# Altium schematic symbol library SEMATIK_LIB.SchLib: 632 symbols (part 10 of 21)
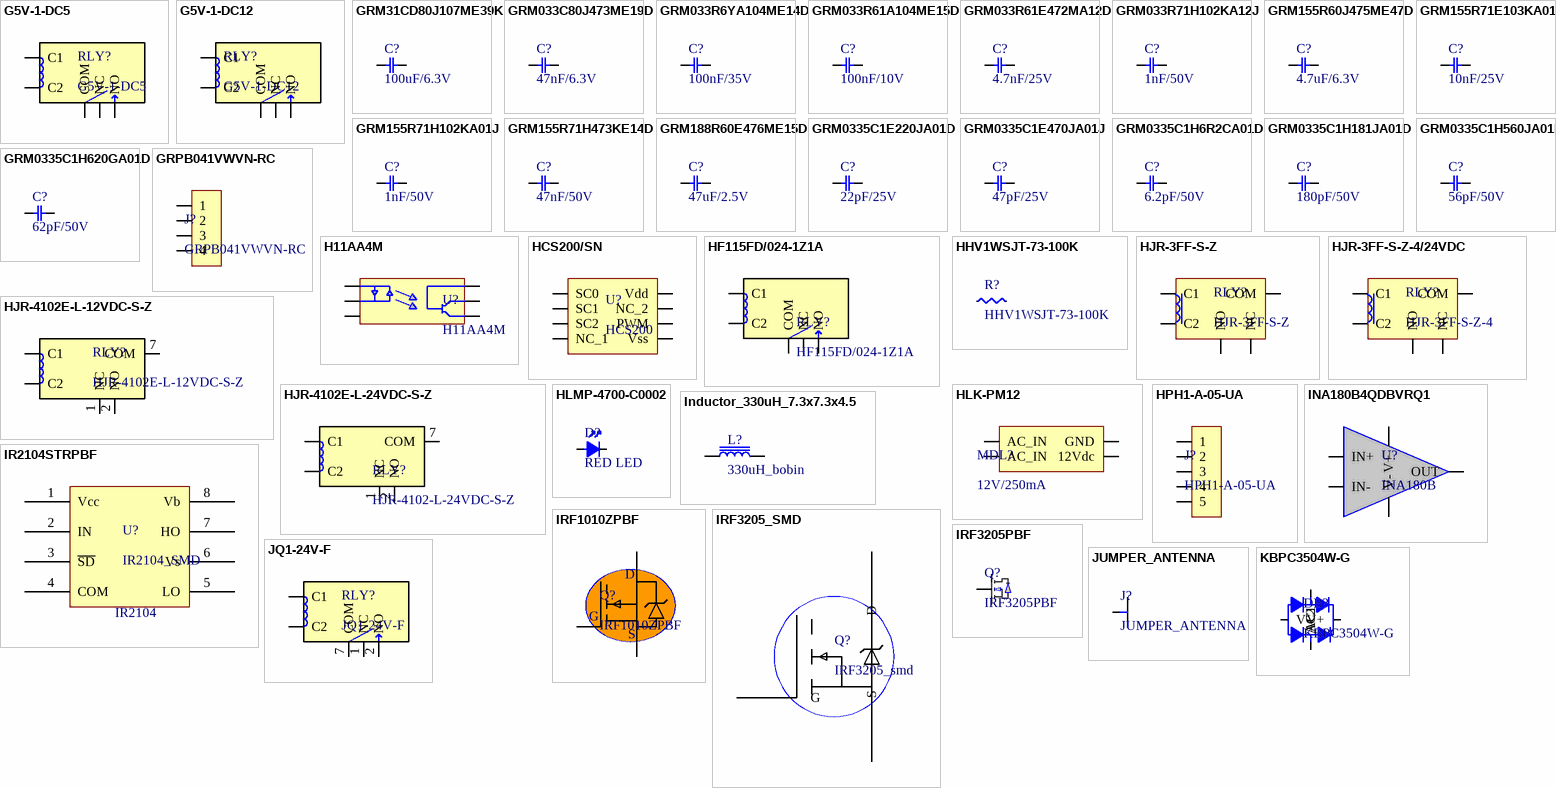
[diagram p25: symbols G5V-1-DC5 to KBPC3504W-G]

## GRM155R71H102KA01J
designator C?, comment 1nF/50V
CAP CER nF 1 50V X7R 0402; Manufacturer: Murata; Manufacturer Part Number: GRM155R71H102KA01J; Capacitance: 1nF; Tolerance: 10%; Supplier 1: Digi-Key; Stock 1: 1789584; Pricing 1: 1 = 0,10000, 10 = 0,03200, 100 = 0,01430, 500 = 0,01020, 1000 = 0,00802, 2500 = 0,00729, 5000 = 0,00670 (USD); RoHS: Yes; Mount: Surface Mount; Case/Package: 0402; Case Code (Imperial): 0402; Case Code (Metric): 1005; Min Operating Temperature: -55°C; Max Operating Temperature: 125°C; Voltage Rating: 50V; Voltage Rating (DC): 50V; Packaging: Tape and Reel; Package Quantity: 1; Dielectric: X7R; Termination: SMD/SMT; Voltage: 50V; Length: 1mm; Height: 0.5mm; Width: 0.5mm; Thickness: 0.022inch; Depth: 0.5mm; Radiation Hardening: No; Lead Free: Lead Free; ComponentLink1URL: https://datasheet.ciiva.com/5419/product-5419249.pdf?src-supplier=Mouser; ComponentLink1Description: https://datasheet.ciiva.com/5419/product-5419249.pdf?src-supplier=Mouser; ComponentLink2URL: https://datasheet.ciiva.com/6263/partnumbering-e-01-6263560.pdf?src-supplier=Digi-Key; ComponentLink2Description: https://datasheet.ciiva.com/6263/partnumbering-e-01-6263560.pdf?src-supplier=Digi-Key; ComponentLink3URL: https://datasheet.ciiva.com/6263/partnumbering-e-01-6263561.pdf?src-supplier=Digi-Key; ComponentLink3Description: https://datasheet.ciiva.com/6263/partnumbering-e-01-6263561.pdf?src-supplier=Digi-Key; ComponentLink4URL: https://datasheet.ciiva.com/6263/partnumbering-e-01-6263562.pdf?src-supplier=Digi-Key; ComponentLink4Description: https://datasheet.ciiva.com/6263/partnumbering-e-01-6263562.pdf?src-supplier=Digi-Key; Supplier Part Number 1: 490-6350-1-ND
footprint cap_0402
footprint cap_0402_NOSILK
pins: 1, 2

## GRM155R71H473KE14D
designator C?, comment 47nF/50V
CAP CER nF 47 50V X7R 0402; Manufacturer: Murata; Manufacturer Part Number: GRM155R71H473KE14D; Tolerance: 10%; Capacitance: 47nF; Supplier 1: Digi-Key; Stock 1: 120112; Pricing 1: 1 = 0,10000, 10 = 0,03700, 100 = 0,01640, 500 = 0,01174, 1000 = 0,00923, 2500 = 0,00839, 5000 = 0,00772 (USD); RoHS: Yes; Mount: Surface Mount; Case/Package: 0402; Weight: 0.000212oz; Case Code (Imperial): 0402; Case Code (Metric): 1005; Min Operating Temperature: -55°C; Max Operating Temperature: 125°C; Dielectric: X7R; Voltage Rating (DC): 50V; Packaging: Tape and Reel; Voltage Rating: 50V; Termination: SMD/SMT; Composition: Ceramic; Package Quantity: 10000; Length: 0.039inch; Height: 0.5mm; Width: 0.02inch; Thickness: 0.022inch; ComponentLink1URL: http://www.mouser.com/ds/2/281/c02e-2905.pdf?src-supplier=Mouser; ComponentLink1Description: http://www.mouser.com/ds/2/281/c02e-2905.pdf?src-supplier=Mouser; ComponentLink2URL: http://search.murata.co.jp/Ceramy/image/img/A01X/G101/ENG/GRM155R71H473KE14-01.pdf?src-supplier=Digi-Key; ComponentLink2Description: http://search.murata.co.jp/Ceramy/image/img/A01X/G101/ENG/GRM155R71H473KE14-01.pdf?src-supplier=Digi-Key; Supplier Part Number 1: 490-10702-6-ND
footprint cap_0402
footprint cap_0402_NOSILK
pins: 1, 2

## GRM188R60E476ME15D
designator C?, comment 47uF/2.5V
CAP CER uF 47 2.5V X5R 0603; Manufacturer: Murata; Manufacturer Part Number: GRM188R60E476ME15D; Tolerance: 20%; Capacitance: 47uF; Supplier 1: Digi-Key; Stock 1: 16000; Pricing 1: 4000 = 0,11145, 8000 = 0,10402, 12000 = 0,10216 (USD); RoHS: Yes; Mount: Surface Mount; Case/Package: 0603; Case Code (Imperial): 0603; Case Code (Metric): 1608; Min Operating Temperature: -55°C; Max Operating Temperature: 85°C; Packaging: Tape and Reel; Voltage Rating: 2.5V; Voltage Rating (DC): 2.5V; Dielectric: X5R; Length: 0.063inch; Width: 0.031inch; Thickness: 0.039inch; ComponentLink1URL: http://search.murata.co.jp/Ceramy/image/img/A01X/G101/ENG/GRM188R60E476ME15-01.pdf?src-supplier=Digi-Key; ComponentLink1Description: http://search.murata.co.jp/Ceramy/image/img/A01X/G101/ENG/GRM188R60E476ME15-01.pdf?src-supplier=Digi-Key; ComponentLink2URL: http://search.murata.co.jp/Ceramy/image/img/A01X/partnumbering_e_01.pdf?src-supplier=Digi-Key; ComponentLink2Description: http://search.murata.co.jp/Ceramy/image/img/A01X/partnumbering_e_01.pdf?src-supplier=Digi-Key; Supplier Part Number 1: 490-13245-2-ND
footprint cap_0603
pins: 1, 2

## GRM0335C1E220JA01D
designator C?, comment 22pF/25V
CAP CER pF 22 25V C0G/NP0 0201; Manufacturer: Murata; Manufacturer Part Number: GRM0335C1E220JA01D; Capacitance: 22pF; Tolerance: 5%; Dielectric: C0G; Supplier 1: Digi-Key; Stock 1: 625122; Pricing 1: 1 = 0,10000, 10 = 0,01600, 50 = 0,00880, 100 = 0,00710, 500 = 0,00508, 1000 = 0,00399, 2500 = 0,00363, 5000 = 0,00334 (USD); RoHS: Yes; Mount: Surface Mount; Case/Package: 0201; Case Code (Metric): 0603; Case Code (Imperial): 0201; Min Operating Temperature: -55°C; Max Operating Temperature: 125°C; Voltage Rating: 25V; Voltage Rating (DC): 25V; Packaging: Tape and Reel; Package Quantity: 1; Termination: SMD/SMT; Voltage: 25V; Length: 0.6mm; Height: 0.3mm; Width: 0.3mm; Thickness: 0.013inch; Depth: 0.3mm; Radiation Hardening: No; REACH SVHC: No SVHC; Lead Free: Lead Free; ComponentLink1URL: https://datasheet.ciiva.com/18697/partnumbering-e-01-18697783.pdf?src-supplier=Digi-Key; ComponentLink1Description: https://datasheet.ciiva.com/18697/partnumbering-e-01-18697783.pdf?src-supplier=Digi-Key; ComponentLink2URL: https://datasheet.ciiva.com/18697/partnumbering-e-01-18697784.pdf?src-supplier=Digi-Key; ComponentLink2Description: https://datasheet.ciiva.com/18697/partnumbering-e-01-18697784.pdf?src-supplier=Digi-Key; ComponentLink3URL: https://datasheet.ciiva.com/18697/partnumbering-e-01-18697785.pdf?src-supplier=Digi-Key; ComponentLink3Description: https://datasheet.ciiva.com/18697/partnumbering-e-01-18697785.pdf?src-supplier=Digi-Key; Supplier Part Number 1: 490-1253-1-ND
footprint cap_0201
pins: 1, 2

## GRM0335C1E470JA01J
designator C?, comment 47pF/25V
CAP CER pF 47 25V 5% NP0 0201; Manufacturer: Murata; Manufacturer Part Number: GRM0335C1E470JA01J; Capacitance: 47pF; Supplier 1: Digi-Key; Stock 1: 76340; Pricing 1: 1 = 0,10000, 10 = 0,01700, 100 = 0,00740, 500 = 0,00532, 1000 = 0,00417, 2500 = 0,00380, 5000 = 0,00349 (USD); RoHS: Yes; Mount: Surface Mount; Case/Package: 0201; Case Code (Imperial): 0201; Case Code (Metric): 0603; Min Operating Temperature: -55°C; Max Operating Temperature: 125°C; Tolerance: 5%; Packaging: Tape and Reel; Voltage Rating: 25V; Package Quantity: 50000; Termination: SMD/SMT; Voltage Rating (DC): 25V; Length: 0.024inch; Width: 0.012inch; Thickness: 0.013inch; Lead Free: Lead Free; ComponentLink1URL: https://datasheet.ciiva.com/29535/grm0335c1e470ja01-01-29535197.pdf?src-supplier=Digi-Key; ComponentLink1Description: https://datasheet.ciiva.com/29535/grm0335c1e470ja01-01-29535197.pdf?src-supplier=Digi-Key; Supplier Part Number 1: 490-14548-1-ND
footprint cap_0201
pins: 1, 2

## GRM0335C1H6R2CA01D
designator C?, comment 6.2pF/50V
CAP CER pF 6.2 50V NP0 0201; Manufacturer: Murata; Manufacturer Part Number: GRM0335C1H6R2CA01D; Capacitance: 6.2pF; Dielectric: C0G; Supplier 1: Digi-Key; Stock 1: 22925; Pricing 1: 1 = 0,10000, 10 = 0,01600, 50 = 0,00880, 100 = 0,00710, 500 = 0,00508, 1000 = 0,00399, 2500 = 0,00363, 5000 = 0,00334 (USD); RoHS: Yes; Mount: Surface Mount; Case/Package: 0201; Case Code (Imperial): 0201; Case Code (Metric): 0603; Min Operating Temperature: -55°C; Max Operating Temperature: 125°C; Voltage Rating: 50V; Voltage Rating (DC): 50V; Packaging: Tape and Reel; Package Quantity: 15000; Termination: SMD/SMT; Length: 0.024inch; Height: 0.3mm; Width: 0.3mm; Thickness: 0.013inch; ComponentLink1URL: https://datasheet.ciiva.com/29535/partnumbering-e-01-29535223.pdf?src-supplier=Digi-Key; ComponentLink1Description: https://datasheet.ciiva.com/29535/partnumbering-e-01-29535223.pdf?src-supplier=Digi-Key; Supplier Part Number 1: 490-16730-1-ND
footprint cap_0201
pins: 1, 2

## GRM0335C1H181JA01D
designator C?, comment 180pF/50V
CAP CER pF 180 50V C0G/NP0 0201; Manufacturer: Murata; Manufacturer Part Number: GRM0335C1H181JA01D; Capacitance: 180pF; Dielectric: C0G; Tolerance: 5%; Supplier 1: Digi-Key; Stock 1: 161344; Pricing 1: 1 = 0,10000, 10 = 0,02500, 50 = 0,01380, 100 = 0,01130, 500 = 0,00804, 1000 = 0,00632, 2500 = 0,00575, 5000 = 0,00529 (USD); RoHS: Yes; Mount: Surface Mount; Case/Package: 0201; Weight: 1.2E-05oz; Case Code (Imperial): 0201; Case Code (Metric): 0603; Min Operating Temperature: -55°C; Max Operating Temperature: 125°C; Packaging: Tape and Reel; Voltage Rating: 50V; Termination: SMD/SMT; Composition: Ceramic; Voltage Rating (DC): 50V; Package Quantity: 15000; Length: 0.024inch; Height: 0.3mm; Width: 0.012inch; Thickness: 0.013inch; ComponentLink1URL: http://www.mouser.com/ds/2/281/c02e-2905.pdf?src-supplier=Mouser; ComponentLink1Description: http://www.mouser.com/ds/2/281/c02e-2905.pdf?src-supplier=Mouser; ComponentLink2URL: https://search.murata.co.jp/Ceramy/image/img/A01X/G101/ENG/GRM0335C1H181JA01-01.pdf?src-supplier=Digi-Key; ComponentLink2Description: https://search.murata.co.jp/Ceramy/image/img/A01X/G101/ENG/GRM0335C1H181JA01-01.pdf?src-supplier=Digi-Key; ComponentLink3URL: http://search.murata.co.jp/Ceramy/image/img/A01X/G101/ENG/GRM0335C1H181JA01-01.pdf?src-supplier=Digi-Key; ComponentLink3Description: http://search.murata.co.jp/Ceramy/image/img/A01X/G101/ENG/GRM0335C1H181JA01-01.pdf?src-supplier=Digi-Key; Supplier Part Number 1: 490-16722-1-ND
footprint cap_0201
pins: 1, 2

## GRM0335C1H560JA01D
designator C?, comment 56pF/50V
CAP CER pF 56 50V C0G/NP0 0201; Manufacturer: Murata; Manufacturer Part Number: GRM0335C1H560JA01D; Capacitance: 56pF; Tolerance: 5%; Dielectric: C0G; Supplier 1: Digi-Key; Stock 1: 228495; Pricing 1: 1 = 0,10000, 10 = 0,01600, 50 = 0,00880, 100 = 0,00710, 500 = 0,00508, 1000 = 0,00399, 2500 = 0,00363, 5000 = 0,00334 (USD); RoHS: Yes; Mount: Surface Mount; Case/Package: 0201; Case Code (Metric): 0603; Case Code (Imperial): 0201; Min Operating Temperature: -55°C; Max Operating Temperature: 125°C; Package Quantity: 15000; Voltage Rating: 50V; Packaging: Tape and Reel; Voltage Rating (DC): 50V; Termination: SMD/SMT; Voltage: 50V; Length: 0.6mm; Height: 0.3mm; Width: 0.012inch; Thickness: 0.013inch; Depth: 0.3mm; Lead Free: Lead Free; ComponentLink1URL: https://datasheet.ciiva.com/6263/partnumbering-e-01-6263607.pdf?src-supplier=Digi-Key; ComponentLink1Description: https://datasheet.ciiva.com/6263/partnumbering-e-01-6263607.pdf?src-supplier=Digi-Key; ComponentLink2URL: https://datasheet.ciiva.com/6263/partnumbering-e-01-6263599.pdf?src-supplier=Digi-Key; ComponentLink2Description: https://datasheet.ciiva.com/6263/partnumbering-e-01-6263599.pdf?src-supplier=Digi-Key; Supplier Part Number 1: 490-6131-1-ND
footprint cap_0201
pins: 1, 2

## GRM0335C1H620GA01D
designator C?, comment 62pF/50V
CAP CER pF 62 50V C0G/NP0 0201; Manufacturer: Murata; Manufacturer Part Number: GRM0335C1H620GA01D; Capacitance: 62pF; Tolerance: 2%; Dielectric: C0G; Supplier 1: Digi-Key; Stock 1: 24212; Pricing 1: 1 = 0,10000, 10 = 0,02100, 50 = 0,01160, 100 = 0,00950, 500 = 0,00678, 1000 = 0,00532, 2500 = 0,00484, 5000 = 0,00445 (USD); RoHS: Yes; Mount: Surface Mount; Case/Package: 0201; Case Code (Metric): 0603; Case Code (Imperial): 0201; Min Operating Temperature: -55°C; Max Operating Temperature: 125°C; Package Quantity: 15000; Packaging: Tape and Reel; Voltage Rating: 50V; Voltage Rating (DC): 50V; Termination: SMD/SMT; Length: 0.024inch; Height: 0.3mm; Width: 0.012inch; Thickness: 0.013inch; ComponentLink1URL: https://datasheet.ciiva.com/29538/grm0335c1h620ga01-01-29538493.pdf?src-supplier=Digi-Key; ComponentLink1Description: https://datasheet.ciiva.com/29538/grm0335c1h620ga01-01-29538493.pdf?src-supplier=Digi-Key; Supplier Part Number 1: 490-11337-6-ND
footprint cap_0201
pins: 1, 2

## GRPB041VWVN-RC
designator J?
CONN HEADER 4POS 1.27MM VERT; Manufacturer: Sullins; Number of Positions: 4; Connector Type: Male Pin; Pitch: 0.05inch; Supplier 1: Digi-Key; Manufacturer Part Number: GRPB041VWVN-RC; Stock 1: 14086; Pricing 1: 1 = 0,37000, 10 = 0,35000, 100 = 0,24480, 500 = 0,20980, 1000 = 0,17483, 5000 = 0,14985, 10000 = 0,14430 (USD); RoHS: Yes; Mount: Through Hole; Contact Plating: Gold; Package Quantity: 1; Number of Rows: 1; Packaging: Bulk; Termination: Solder; Contact Mating Length: 0.118inch; Lead Free: Lead Free; ComponentLink1URL: https://datasheet.ciiva.com/726/71-grpb-1vwvn-rc-10957-c-726650.pdf?src-supplier=Digi-Key; ComponentLink1Description: https://datasheet.ciiva.com/726/71-grpb-1vwvn-rc-10957-c-726650.pdf?src-supplier=Digi-Key; Supplier Part Number 1: S9014E-04-ND
footprint HDR_MALE_1x4_50mil
pins: 1, 2, 3, 4

## H11AA4M
designator U?
OPTOISO 4.17KV TRANS W/BASE 6DIP; Manufacturer 1: ON Semiconductor / Fairchild; Forward Voltage: 1.5V; Number of Channels: 1; Collector Emitter Voltage (VCEO): 400mV; Max Output Voltage: 30V; Output Current per Channel: 50mA; Forward Current: 60mA; Max Power Dissipation: 250mW; Isolation Voltage: 7.5kV; Supplier 1: Digi-Key; Manufacturer Part Number 1: H11AA4M; Description 1: OPTOISO 4.17KV TRANS W/BASE 6DIP; Stock 1: 1479; Pricing 1: 1=0.87, 10=0.676, 100=0.4826, 500=0.3668, 1000=0.28958 (USD); Mount: Through Hole; Case/Package: PDIP; Number of Pins: 6; Weight: 0.855g; Min Operating Temperature: -40°C; Max Operating Temperature: 100°C; Packaging: Bulk; Package Quantity: 1000; Max Collector Current: 50mA; Collector Emitter Saturation Voltage: 400mV; Number of Elements: 1; Power Dissipation: 250mW; Max Input Current: 60mA; Number of Circuits: 1; Output Voltage: 30V; Radiation Hardening: No; REACH SVHC: No SVHC; Lead Free: Lead Free; ComponentLink1URL: http://www.fairchildsemi.com/datasheets/H1/H11AA1M.pdf?src-supplier=Digi-Key; ComponentLink1Description: http://www.fairchildsemi.com/datasheets/H1/H11AA1M.pdf?src-supplier=Digi-Key; ComponentLink2URL: https://www.verical.com/server-webapp/html/getDatasheet?partID=110467&src-supplier=Verical; ComponentLink2Description: https://www.verical.com/server-webapp/html/getDatasheet?partID=110467&src-supplier=Verical; ComponentLink3URL: https://www.fairchildsemi.com/datasheets/H1/H11AA1M.pdf?src-supplier=Avnet; ComponentLink3Description: https://www.fairchildsemi.com/datasheets/H1/H11AA1M.pdf?src-supplier=Avnet; ComponentLink4URL: http://www.fairchildsemi.com/ds/H1/H11AA1M.pdf?src-supplier=Avnet+Europe; ComponentLink4Description: http://www.fairchildsemi.com/ds/H1/H11AA1M.pdf?src-supplier=Avnet+Europe; ComponentLink5URL: http://www.fairchildsemi.com/ds/H1/H11AA4M.pdf?src-supplier=Future+Electronics; ComponentLink5Description: http://www.fairchildsemi.com/ds/H1/H11AA4M.pdf?src-supplier=Future+Electronics; ComponentLink6URL: http://datasheet.iiic.cc/fairchild/H11AA4M.pdf?src-supplier=IIIC; ComponentLink6Description: http://datasheet.iiic.cc/fairchild/H11AA4M.pdf?src-supplier=IIIC; Supplier Part Number 1: H11AA4M-ND
footprint DIP6PIN
pins: 1 G1, 2 G2, 3 bos, 4 E, 5 C, 6 B

## HCS200/SN
designator U?, comment HCS200
IC CODE HOPPING ENCODER 8SOIC; Manufacturer: Microchip; Manufacturer Part Number: HCS200/SN; Supplier 1: Digi-Key; Stock 1: 348; Pricing 1: 1 = 1,02000, 25 = 0,99000, 100 = 0,95000 (USD); RoHS: Yes; ComponentLink1URL: https://datasheet.ciiva.com/1176/40138c-1176083.pdf?src-supplier=Newark; ComponentLink1Description: https://datasheet.ciiva.com/1176/40138c-1176083.pdf?src-supplier=Newark; ComponentLink2URL: https://datasheet.ciiva.com/2080/40138d-2080773.pdf?src-supplier=Digi-Key; ComponentLink2Description: https://datasheet.ciiva.com/2080/40138d-2080773.pdf?src-supplier=Digi-Key; ComponentLink3URL: https://datasheet.ciiva.com/3030/jp011305-3030780.pdf?src-supplier=Avnet; ComponentLink3Description: https://datasheet.ciiva.com/3030/jp011305-3030780.pdf?src-supplier=Avnet; ComponentLink4URL: https://datasheet.ciiva.com/16640/jp011305-16640526.pdf?src-supplier=Avnet+Europe; ComponentLink4Description: https://datasheet.ciiva.com/16640/jp011305-16640526.pdf?src-supplier=Avnet+Europe; Supplier Part Number 1: HCS200/SN-ND
footprint SOP8
pins: 1 SC0, 2 SC1, 3 SC2, 4 NC_1, 5 Vss, 6 PWM, 7 NC_2, 8 Vdd

## HF115FD/024-1Z1A
designator RLY?
RELAY GEN PURPOSE SPDT 12A 24V; Manufacturer 1: Omron; Manufacturer Part Number 1: G2RL-1-DC24; Relay Type: General Purpose; Coil Type: Non-Latching; Voltage Rating (AC): 440V; Max Voltage Rating (DC): 300V; Power Consumption: 400mW; Coil Current: 16.7mA; Operate Time: 15ms; Release Time: 5ms; Coil Resistance: 1.44kR; Supplier 1: Digi-Key; Stock 1: 1573; Pricing 1: 1=2,61000, 10=2,45000, 25=2,17760, 50=2,06880, 100=1,95980, 250=1,74208, 500=1,63320, 1000=1,52432, 5000=1,46988 (USD); RoHS: Yes; Mount: Through Hole; Number of Pins: 5; Weight: 12g; Contact Material: Silver,Cadmium; Min Operating Temperature: -40°C; Max Operating Temperature: 85°C; Coil Voltage (DC): 24V; Max Current Rating: 12A; Max Voltage Rating (AC): 440V; Package Quantity: 20; Packaging: Bulk; Contact Current Rating: 12A; Throw Configuration: SPDT; Termination: PC Pin; Coil Power: 400mW; Length: 29mm; Height: 15.7mm; Width: 12.7mm; Depth: 12.7mm; Radiation Hardening: No; Lead Free: Lead Free; Supplier Part Number 1: Z3077-ND; ComponentLink1Description: datasheet; ComponentLink1URL: https://www.robot-electronics.co.uk/files/HF115FD.pdf
footprint Relay_HF115FD/024-1Z1A
footprint Relay_TRA2-L-12VDC-S-2Z+HF115
pins: C1, C2, COM, NC, NO

## HHV1WSJT-73-100K
designator R?
Res 100K Ohm 1W 5% Axial
footprint R_DIP_727mil
pins: 1, 2

## HJR-3FF-S-Z
designator RLY?
RELAY GEN PURPOSE SPDT 10A 24Vdc; Manufacturer: TE Connectivity; Manufacturer Part Number: ORWH-SH-112D1F,000; Coil Voltage (DC): 12V; Power Consumption: 360mW; Coil Resistance: 400R; Coil Type: Non-Latching; Coil Power: 400mW; Contact Voltage Rating (AC): 277V; Supplier 1: Digi-Key; Stock 1: 13261; Pricing 1: 1=1.18, 10=1.107, 25=0.984, 50=0.9348, 100=0.8857, 250=0.78724, 500=0.73804, 1000=0.68884, 5000=0.66424 (USD); Weight: 9.5g; Contact Material: Silver; Contact Current Rating: 10A; Packaging: Rail/Tube; Termination: PCB; Throw Configuration: SPDT; Package Quantity: 25; Length: 0.748inch; Height: 0.622inch; Width: 15.5mm; REACH SVHC: No SVHC; ComponentLink1URL: http://www.farnell.com/datasheets/1716748.pdf?src-supplier=Farnell; ComponentLink1Description: http://www.farnell.com/datasheets/1716748.pdf?src-supplier=Farnell; ComponentLink2URL: http://www.mouser.com/ds/2/418/NG_CD_1721150_D-687179.pdf?src-supplier=Mouser; ComponentLink2Description: http://www.mouser.com/ds/2/418/NG_CD_1721150_D-687179.pdf?src-supplier=Mouser; Supplier Part Number 1: PB2029-ND
footprint Relay_HJR-3FF-S-Z
pins: C1, C2, COM, NC, NO

## HJR-3FF-S-Z-4/24VDC
designator RLY?, comment HJR-3FF-S-Z-4
RELAY GEN PURPOSE SPDT 10A 24Vdc; Manufacturer: TE Connectivity; Manufacturer Part Number: ORWH-SH-112D1F,000; Coil Voltage (DC): 12V; Power Consumption: 360mW; Coil Resistance: 400R; Coil Type: Non-Latching; Coil Power: 400mW; Contact Voltage Rating (AC): 277V; Supplier 1: Digi-Key; Stock 1: 13261; Pricing 1: 1=1.18, 10=1.107, 25=0.984, 50=0.9348, 100=0.8857, 250=0.78724, 500=0.73804, 1000=0.68884, 5000=0.66424 (USD); Weight: 9.5g; Contact Material: Silver; Contact Current Rating: 10A; Packaging: Rail/Tube; Termination: PCB; Throw Configuration: SPDT; Package Quantity: 25; Length: 0.748inch; Height: 0.622inch; Width: 15.5mm; REACH SVHC: No SVHC; Supplier Part Number 1: PB2029-ND; ComponentLink1Description: datasheet; ComponentLink1URL: https://cdn.ozdisan.com/ETicaret_Dosya/415763_1216803.pdf
footprint Relay_HJR-3FF-S-Z
pins: C1, C2, COM, NC, NO

## HJR-4102E-L-12VDC-S-Z
designator RLY?
RELAY GEN PURPOSE SPDT 3A 12VDC 1FormC
footprint RELAY_HJR-4102E-L-12VDC-S-Z
pins: 1 NC, 2 NO, 7 COM, 11 C1, 12 C2

## HJR-4102E-L-24VDC-S-Z
designator RLY?, comment HJR-4102-L-24VDC-S-Z
RELAY GEN PURPOSE SPDT 3A 24VDC 1FormC
footprint RELAY_HJR-4102E-L-12VDC-S-Z
pins: 1 NC, 2 NO, 7 COM, 11 C1, 12 C2

## HLK-PM12
designator MDL?, comment 12V/250mA
AC/DC CONV 3W 110-240VAC 12VDC 250mA; ComponentLink1Description: Datasheet; ComponentLink1URL: https://cdn.ozdisan.com/ETicaret_Dosya/593142_213018.pdf
footprint HLK-PM12
pins: 1 AC_IN, 2 AC_IN, 3 GND, 4 12Vdc

## HLMP-4700-C0002
designator D?, comment RED LED
LED RED CLEAR 5MM T/H; Manufacturer 1: Broadcom Avago; Manufacturer Part Number 1: HLMP-4700-C0002; Description 1: LED, 5MM, RED, 2.3MCD, 626NM - More Details; Viewing Angle: 50°; Lens Style: Diffused,Tinted,Dome,Round,Colored,Circular; Luminous Intensity: 2.3mcd; Forward Current: 7mA; Forward Voltage: 1.7V; Lens Transparency: Diffused; Test Current: 2mA; Dominant Wavelength: 626nm; Number of Elements: 1; Power Dissipation: 14mW; Reverse Voltage: 5V; Supplier 1: Digi-Key; Stock 1: 22195; Pricing 1: 1=0.58, 10=0.455, 25=0.3788, 100=0.2915, 500=0.2507 (USD); Mount: Through Hole; Case/Package: Radial; Number of Pins: 2; Color: Red; Lens Color: Red; Min Operating Temperature: -40°C; Max Operating Temperature: 100°C; Package Quantity: 1; Packaging: Tape and Reel; Illumination Color: Red; Wavelength: 626nm; Number of LEDs: 1; Diameter: 5mm; Length: 6.1mm; Height: 9.19mm; Depth: 6.1mm; Lens Size: 5mm; Radiation Hardening: No; Lead Free: Lead Free; ComponentLink1URL: https://www.verical.com/server-webapp/html/getDatasheet?partID=122306&src-supplier=Verical; ComponentLink1Description: https://www.verical.com/server-webapp/html/getDatasheet?partID=122306&src-supplier=Verical; Supplier Part Number 1: 516-2483-1-ND
pins: 1 Katot, 2 Anot

## HPH1-A-05-UA
designator J?
CONN HEADER 5POS 1.27mm VERT; Manufacturer: Adam Equipment; Supplier 1: Digi-Key; Manufacturer Part Number: HPH1-A-05-UA; Stock 1: 287; Pricing 1: 1 = 0,39000, 10 = 0,37100, 100 = 0,25980, 500 = 0,22270, 1000 = 0,18559, 5000 = 0,15908, 10000 = 0,14847 (USD); RoHS: No; Supplier Part Number 1: 2057-HPH1-A-05-UA-ND
footprint HDR_MALE_1x5_50mil_Vert
pins: 1, 2, 3, 4, 5

## INA180B4QDBVRQ1
designator U?, comment INA180B
Trans MOSFET P-CH 40V 14A 3-Pin(2+Tab) DPAK T/R; Manufacturer: Texas Instruments; Manufacturer Part Number: INA180B4QDBVRQ1; Rds On Max: 44mR; Input Capacitance: 1.55nF; Rise Time: 15ns; Max Power Dissipation: 50W; Fall Time: 7ns; Power Dissipation: 42W; Turn-Off Delay Time: 22ns; Number of Elements: 1; Turn-On Delay Time: 6ns; Element Configuration: Single; Drain to Source Breakdown Voltage: -40V; Gate to Source Voltage (Vgs): 20V; Polarity: P-CHANNEL; Supplier 1: Digi-Key; RoHS: Yes; Category: Amplifiers - Op Amps, Buffer, Instrumentation; Stock 1: 2996; Pricing 1: 1=0,65000, 10=0,55300, 25=0,51560, 100=0,41260, 250=0,38308, 500=0,32414, 1000=0,25048 (USD); Supplier Part Number 1: 296-INA180B4QDBVRQ1CT-ND; Supplier 2: Digi-Key; Mount: Surface Mount; Case/Package: DPAK; Number of Pins: 3; Weight: 0.26037g; Min Operating Temperature: -55°C; Max Operating Temperature: 175°C; Package Quantity: 1; Packaging: Tape and Reel; Drain to Source Voltage (Vdss): 40V; Continuous Drain Current (ID): 14A; Drain to Source Resistance: 44mR; Series: Automotive, AEC-Q101, PowerTrench®; Radiation Hardening: No; RoHS Compliant: Yes; Lead Free: Lead Free; ComponentLink1URL: https://datasheet.ciiva.com/6037/298847-6037216.pdf?src-supplier=Digi-Key; ComponentLink1Description: https://datasheet.ciiva.com/6037/298847-6037216.pdf?src-supplier=Digi-Key; ComponentLink2URL: https://datasheet.ciiva.com/13045/fdd4243-f085-38700-13045586.pdf?src-supplier=Mouser; ComponentLink2Description: https://datasheet.ciiva.com/13045/fdd4243-f085-38700-13045586.pdf?src-supplier=Mouser; ComponentLink3URL: https://datasheet.ciiva.com/11175/fdd4243-f085-11175304.pdf?src-supplier=Avnet; ComponentLink3Description: https://datasheet.ciiva.com/11175/fdd4243-f085-11175304.pdf?src-supplier=Avnet; ComponentLink4URL: https://datasheet.ciiva.com/29750/fdd4243-29750471.pdf?src-supplier=Digi-Key; ComponentLink4Description: https://datasheet.ciiva.com/29750/fdd4243-29750471.pdf?src-supplier=Digi-Key; ComponentLink5URL: https://datasheet.ciiva.com/29750/fdd4243-29750475.pdf?src-supplier=Digi-Key; ComponentLink5Description: https://datasheet.ciiva.com/29750/fdd4243-29750475.pdf?src-supplier=Digi-Key
footprint SOT-23-5 (Footprint not found)
pins: 1 IN+, 2 V-, 3 IN-, 4 OUT, 5 V+

## Inductor_330uH_7.3x7.3x4.5
designator L?, comment 330uH_bobin
FIXED IND uH 330 520MA 1.15 OHM; Manufacturer: Bourns Inc.; Manufacturer Part Number: SDR1006-331KL; Type: Wirewound; Material - Core: Ferrite; Tolerance: ±10%; Shielding: Unshielded; DC Resistance (DCR): 1.15 Ohm Max; Q @ Freq: 12 @ 796kHz; Supplier 1: Digi-Key; RoHS: RoHS Compliant; Category: Inductors, Coils, Chokes; Stock 1: 53636; Pricing 1: 1=0.83, 10=0.725, 100=0.5175 (USD); Packaging: Cut Tape (CT); Part Status: Active; Ratings: -; Operating Temperature: -40°C ~ 125°C; Mounting Type: Surface Mount; Package / Case: Nonstandard; Supplier Device Package: -; Size / Dimension: 0.386" L x 0.386" W (9.80mm x 9.80mm); Height - Seated (Max): 0.228" (5.80mm); ComponentLink1URL: http://www.bourns.com/docs/Product-Datasheets/SDR1006.pdf; ComponentLink1Description: http://www.bourns.com/docs/Product-Datasheets/SDR1006.pdf; Supplier Part Number 1: SDR1006-331KLCT-ND
footprint 330uH_Inductor
pins: 1, 2

## IR2104STRPBF
designator U?, comment IR2104_SMD
IC DRIVER HIGH/LOW SIDE 8SOIC; Manufacturer: Infineon Technologies; Manufacturer Part Number: IR2104STRPBF; Driven Configuration: Half-Bridge; Channel Type: Synchronous; Gate Type: IGBT, N-Channel MOSFET; Voltage - Supply: 10 V ~ 20 V; Logic Voltage - VIL, VIH: 0.8V, 3V; Current - Peak Output (Source, Sink): 210mA, 360mA; Input Type: Non-Inverting; Rise / Fall Time (Typ): 100ns, 50ns; Supplier 1: Digi-Key; RoHS: RoHS Compliant; Category: Integrated Circuits (ICs); Stock 1: 14445; Pricing 1: 1=1.67, 10=1.501, 100=1.2066, 500=0.99138, 1000=0.82143 (USD); Packaging: Cut Tape (CT); Part Status: Active; Operating Temperature: -40°C ~ 150°C (TJ); Mounting Type: Surface Mount; Package / Case: 8-SOIC (0.154", 3.90mm Width); Supplier Device Package: 8-SOIC; Base Part Number: IR2104SPBF; ComponentLink1URL: https://www.infineon.com/dgdl/ir2104.pdf?fileId=5546d462533600a4015355c7c1c31671; ComponentLink1Description: https://www.infineon.com/dgdl/ir2104.pdf?fileId=5546d462533600a4015355c7c1c31671; Supplier Part Number 1: IR2104SPBFCT-ND
footprint SOP8
pins: 1 Vcc, 2 IN, 3 ~{SD}, 4 COM, 5 LO, 6 Vs, 7 HO, 8 Vb
text: IR2104

## IRF1010ZPBF
designator Q?
MOSFET N-CH 55V 75A TO-220AB; Manufacturer: International Rectifier; Element Configuration: Single; Input Capacitance: 2.84nF; Number of Elements: 1; Continuous Drain Current (ID): 94A; Max Power Dissipation: 140W; Gate to Source Voltage (Vgs): 20V; Rds On Max: 7.5mR; Drain to Source Resistance: 8mR; Turn-Off Delay Time: 36ns; Nominal Vgs: 4V; Turn-On Delay Time: 18ns; Fall Time: 92ns; Rise Time: 150ns; Recovery Time: 33ns; Supplier 1: Digi-Key; Manufacturer Part Number: IRF1010ZPBF; Stock 1: 387; Pricing 1: 1 = 1,51000, 10 = 1,35800, 25 = 1,28120, 100 = 0,99940, 250 = 0,97376, 500 = 0,84562, 1000 = 0,71750, 2500 = 0,70725, 5000 = 0,65600 (USD); RoHS: Yes; Mount: Through Hole; Case/Package: TO-220AB; Number of Pins: 3; Min Operating Temperature: -55°C; Max Operating Temperature: 175°C; Dual Supply Voltage: 55V; Voltage Rating (DC): 55V; Current Rating: 75A; Drain to Source Voltage (Vdss): 55V; Drain to Source Breakdown Voltage: 55V; Package Quantity: 3000; Power Dissipation: 140W; Packaging: Rail/Tube; On-State Resistance: 7.5MR; Length: 10.54mm; Height: 8.77mm; Width: 4.69mm; Radiation Hardening: No; REACH SVHC: No SVHC; Lead Free: Lead Free; ComponentLink1URL: https://datasheet.ciiva.com/16292/irf1010zspbf-16292769.pdf?src-supplier=Future+Electronics; ComponentLink1Description: https://datasheet.ciiva.com/16292/irf1010zspbf-16292769.pdf?src-supplier=Future+Electronics; ComponentLink2URL: https://datasheet.ciiva.com/7835/irf1010z-7835546.pdf?src-supplier=Element14; ComponentLink2Description: https://datasheet.ciiva.com/7835/irf1010z-7835546.pdf?src-supplier=Element14; ComponentLink3URL: https://datasheet.ciiva.com/11169/irf1010zspbf-11169452.pdf?src-supplier=Avnet; ComponentLink3Description: https://datasheet.ciiva.com/11169/irf1010zspbf-11169452.pdf?src-supplier=Avnet; ComponentLink4URL: https://datasheet.ciiva.com/14170/irf1010zpbf-eng-tds-14170941.pdf?src-supplier=Distrelec; ComponentLink4Description: https://datasheet.ciiva.com/14170/irf1010zpbf-eng-tds-14170941.pdf?src-supplier=Distrelec; ComponentLink5URL: https://datasheet.ciiva.com/948/irf1010zspbf-948435.pdf?src-supplier=Digi-Key; ComponentLink5Description: https://datasheet.ciiva.com/948/irf1010zspbf-948435.pdf?src-supplier=Digi-Key; ComponentLink6URL: https://datasheet.ciiva.com/17314/irf1010zspbf-17314799.pdf?src-supplier=Avnet+Europe; ComponentLink6Description: https://datasheet.ciiva.com/17314/irf1010zspbf-17314799.pdf?src-supplier=Avnet+Europe; Supplier Part Number 1: IRF1010ZPBF-ND
footprint TO-220AB
pins: 1 G, 2   D, 3    S

## IRF3205_SMD
designator Q?, comment IRF3205_smd
MOSFET N-CH 55V 110A D2PAK; Manufacturer: Infineon Technologies; Manufacturer Part Number: IRF3205STRLPBF; FET Type: N-Channel; Current - Continuous Drain (Id) @ 25°C: 110A (Tc); Drive Voltage (Max Rds On,  Min Rds On): 10V; Vgs(th) (Max) @ Id: 4V @ 250µA; Vgs (Max): ±20V; Power Dissipation (Max): 200W (Tc); Rds On (Max) @ Id, Vgs: 8 mOhm @ 62A, 10V; Supplier 1: Digi-Key; RoHS: RoHS Compliant; Category: Discrete Semiconductor Products; Stock 1: 778; Pricing 1: 1=1.77, 10=1.599, 100=1.2848 (USD); Packaging: Cut Tape (CT); Part Status: Active; Technology: MOSFET (Metal Oxide); FET Feature: -; Operating Temperature: -55°C ~ 175°C (TJ); Mounting Type: Surface Mount; Supplier Device Package: D2PAK; Package / Case: TO-263-3, D²Pak (2 Leads + Tab), TO-263AB; ComponentLink1URL: https://www.infineon.com/dgdl/irf3205spbf.pdf?fileId=5546d462533600a4015355defac9190c; ComponentLink1Description: https://www.infineon.com/dgdl/irf3205spbf.pdf?fileId=5546d462533600a4015355defac9190c; Supplier Part Number 1: IRF3205STRLPBFCT-ND
footprint D2PAK
pins: 1       G, 2   D, 3    S

## IRF3205PBF
designator Q?
MOSFET N-CH 55V 110A TO-220AB; Manufacturer: Infineon Technologies; FET Type: N-Channel; Current - Continuous Drain (Id) @ 25°C: 110A (Tc); Drive Voltage (Max Rds On,  Min Rds On): 10V; Vgs(th) (Max) @ Id: 4V @ 250µA; Vgs (Max): ±20V; Power Dissipation (Max): 200W (Tc); Rds On (Max) @ Id, Vgs: 8 mOhm @ 62A, 10V; Supplier 1: Digi-Key; Manufacturer Part Number: IRF3205PBF; RoHS: RoHS Compliant; Category: Discrete Semiconductor Products; Stock 1: 6105; Pricing 1: 1=1.54, 10=1.363, 100=1.0769, 500=0.83516, 1000=0.65934 (USD); Packaging: Tube; Part Status: Active; Technology: MOSFET (Metal Oxide); FET Feature: -; Operating Temperature: -55°C ~ 175°C (TJ); Mounting Type: Through Hole; Supplier Device Package: TO-220AB; Package / Case: TO-220-3; ComponentLink1URL: http://www.irf.com/product-info/datasheets/data/irf3205.pdf; ComponentLink1Description: http://www.irf.com/product-info/datasheets/data/irf3205.pdf; Supplier Part Number 1: IRF3205PBF-ND
footprint TO-220AB
pins: 1 G, 2 D, 3 S

## JQ1-24V-F
designator RLY?
RELAY GEN PURPOSE SPDT 5A 24V; Manufacturer: Panasonic; Power Rating: 400mW; Voltage Rating (AC): 250V; Max Voltage Rating (DC): 110V; Current Rating: 2A; Coil Resistance: 1.44kR; Coil Current: 16.7mA; Operate Time: 20ms; Release Time: 10ms; Coil Type: Non-Latching; Relay Type: General Purpose; Life (Hours): 5Hour; Approvals: UL,CSA,VDE,TUV; Supplier 1: Digi-Key; Manufacturer Part Number: JQ1-24V-F; RoHS: Yes; Category: Signal Relays; Stock 1: 126; Pricing 1: 1=4,61000, 10=4,31800, 25=3,83800, 50=3,64600, 100=3,45420 (USD); Mount: Through Hole,PCB; Number of Pins: 5; Contact Material: Tin,Silver; Weight: 7g; Min Operating Temperature: -40°C; Max Operating Temperature: 70°C; Max Voltage Rating (AC): 250V; Package Quantity: 100; Packaging: Bulk; Power Consumption: 400mW; Contact Current Rating: 5A; Throw Configuration: SPDT; Termination: PC Pin; Coil Power: 400mW; Coil Voltage (DC): 24V; Series: JQ; Length: 10mm; Width: 10mm; Height: 16mm; Depth: 20mm; REACH SVHC: Unknown; Lead Free: Lead Free; RoHS Compliant: Yes; ComponentLink1URL: https://datasheet.ciiva.com/8000/1643500-8000150.pdf?src-supplier=Element14; ComponentLink1Description: https://datasheet.ciiva.com/8000/1643500-8000150.pdf?src-supplier=Element14; ComponentLink2URL: https://datasheet.ciiva.com/30120/mech-eng-jq-30120140.pdf?src-supplier=Onlinecomponents.com; ComponentLink2Description: https://datasheet.ciiva.com/30120/mech-eng-jq-30120140.pdf?src-supplier=Onlinecomponents.com; ComponentLink3URL: https://datasheet.ciiva.com/14533/70158277-14533725.pdf?src-supplier=Allied+Electronics; ComponentLink3Description: https://datasheet.ciiva.com/14533/70158277-14533725.pdf?src-supplier=Allied+Electronics; Supplier Part Number 1: 255-2075-ND
pins: 1 NC, 2 NO, 7 COM, 11 C1, 12 C2

## JUMPER_ANTENNA
designator J?
2 WAY CHOOSE
footprint Jumper_antenna
pins: 1 COM, 2 WAY A, 3 WAY B

## KBPC3504W-G
designator DB?
DIODE BRIDGE RECT 1P 400V 35A KBPC-W; Manufacturer: Comchip; Supplier 1: Digi-Key; Manufacturer Part Number: KBPC3504W-G; Stock 1: 88; Pricing 1: 1 = 2,36000, 10 = 2,12300, 25 = 2,00240, 100 = 1,56200, 250 = 1,52192, 500 = 1,32166, 1000 = 1,12140, 2500 = 1,10538, 5000 = 1,02528 (USD); RoHS: Yes; Mount: Through Hole; Min Operating Temperature: -55°C; Max Operating Temperature: 150°C; Packaging: Tray; Package Quantity: 1000; Average Rectified Current: 35A; ComponentLink1URL: https://datasheet.ciiva.com/12327/kbpc10005w-g20thru232781-20kbpc5010w-g20series20reva-185829-12327736.pdf?src-supplier=Mouser; ComponentLink1Description: https://datasheet.ciiva.com/12327/kbpc10005w-g20thru232781-20kbpc5010w-g20series20reva-185829-12327736.pdf?src-supplier=Mouser; ComponentLink2URL: https://datasheet.ciiva.com/2960/kbpc10005w-gthru382354-kbpc5010w-gseriesrevb-2960634.pdf?src-supplier=Digi-Key; ComponentLink2Description: https://datasheet.ciiva.com/2960/kbpc10005w-gthru382354-kbpc5010w-gseriesrevb-2960634.pdf?src-supplier=Digi-Key; Supplier Part Number 1: 641-1856-ND
footprint KBPC-W
pins: AC1, AC2, V+, V-

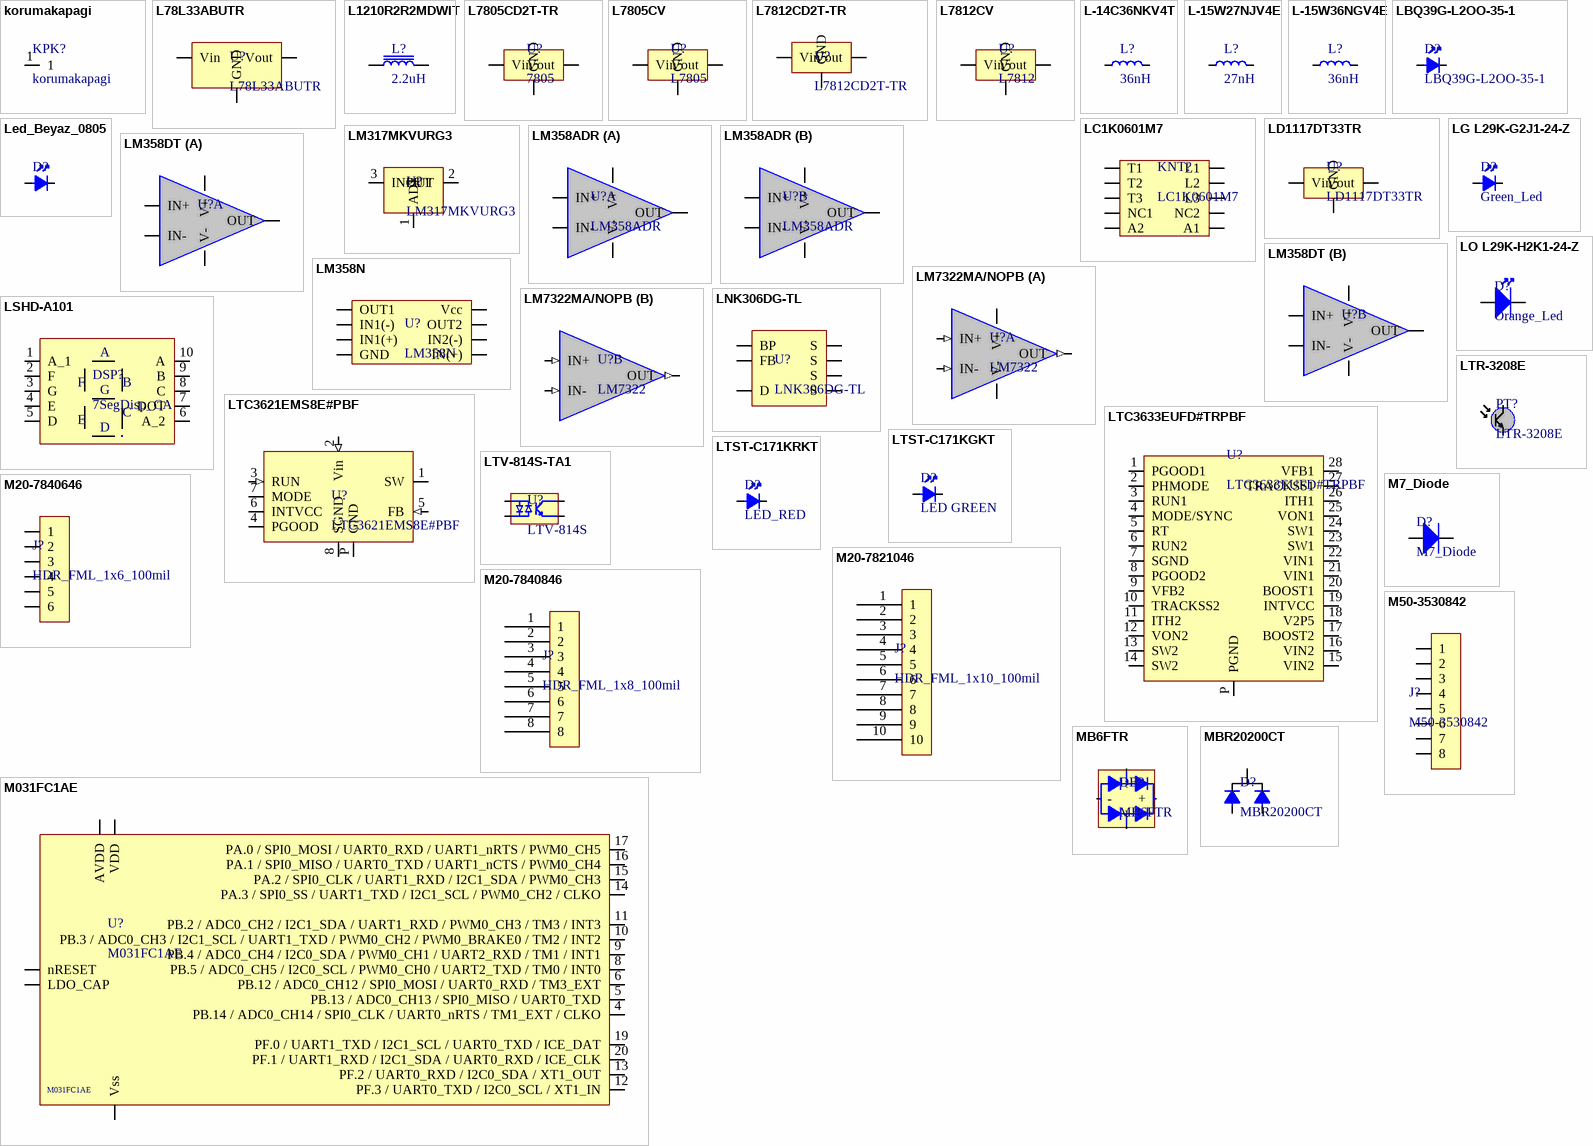
[diagram p8: symbols korumakapagi to MBR20200CT]

## korumakapagi
designator KPK?
footprint korumakapagi
pins: 1

## L78L33ABUTR
designator U?
IC REG LINEAR 3.3V 100MA SOT89-3; Manufacturer: STMicroelectronics; Number of Outputs: 1; Max Input Voltage: 30V; Dropout Voltage: 1.7V; Min Input Voltage: 5.3V; Polarity: Positive; Quiescent Current: 6mA; Power Supply Rejection Ratio (PSRR): 49dB; Output Type: Fixed; Supplier 1: Digi-Key; Manufacturer Part Number: L78L33ABUTR; Stock 1: 13696; Pricing 1: 1=0.46, 10=0.391, 25=0.3648, 100=0.271, 250=0.22932, 500=0.2189, 1000=0.16157 (USD); Mount: Surface Mount; Case/Package: SOT-89; Number of Pins: 3; Min Operating Temperature: -40°C; Max Operating Temperature: 125°C; Output Current: 100mA; Packaging: Tape and Reel; Max Output Current: 100mA; Output Voltage: 3.3V; Package Quantity: 1; Nominal Output Voltage: 3.3V; Number of Regulators: 1; Min Output Voltage: 3.3V; Length: 4.6mm; Height: 1.6mm; Width: 2.6mm; Radiation Hardening: No; REACH SVHC: No SVHC; Lead Free: Lead Free; ComponentLink1URL: http://www.st.com/web/en/resource/technical/document/datasheet/CD00000446.pdf?src-supplier=Future+Electronics; ComponentLink1Description: http://www.st.com/web/en/resource/technical/document/datasheet/CD00000446.pdf?src-supplier=Future+Electronics; ComponentLink2URL: http://www.st.com/content/ccc/resource/technical/document/datasheet/15/55/e5/aa/23/5b/43/fd/CD00000446.pdf/files/CD00000446.pdf/jcr:content/translations/en.CD00000446.pdf?src-supplier=Digi-Key; ComponentLink2Description: http://www.st.com/content/ccc/resource/technical/document/datasheet/15/55/e5/aa/23/5b/43/fd/CD00000446.pdf/files/CD00000446.pdf/jcr:content/translations/en.CD00000446.pdf?src-supplier=Digi-Key; ComponentLink3URL: http://www.farnell.com/datasheets/1897877.pdf?src-supplier=Element14; ComponentLink3Description: http://www.farnell.com/datasheets/1897877.pdf?src-supplier=Element14; ComponentLink4URL: http://www.st.com/web/en/resource/technical/document/datasheet/CD00000446.pdf?src-supplier=Avnet+Europe; ComponentLink4Description: http://www.st.com/web/en/resource/technical/document/datasheet/CD00000446.pdf?src-supplier=Avnet+Europe; ComponentLink5URL: http://www.mouser.com/ds/2/389/l78l-974102.pdf?src-supplier=Mouser; ComponentLink5Description: http://www.mouser.com/ds/2/389/l78l-974102.pdf?src-supplier=Mouser; Supplier Part Number 1: 497-7286-1-ND
footprint SOT-89
pins: 1 Vout, 2 GND, 3 Vin

## L1210R2R2MDWIT
designator L?, comment 2.2uH
FIXED IND uH 2.2 2A 80 MOHM SMD; Manufacturer: KEMET; Manufacturer Part Number: L1210R2R2MDWIT; Type: Wirewound; Material - Core: Ferrite; Tolerance: ±20%; Shielding: Unshielded; DC Resistance (DCR): 80 mOhm; Supplier 1: Digi-Key; RoHS: RoHS Compliant; Category: Inductors, Coils, Chokes; Stock 1: 1590; Pricing 1: 1=0.53, 10=0.466, 25=0.4332, 50=0.3666, 100=0.3332, 250=0.3132, 500=0.27988 (USD); Packaging: Cut Tape (CT); Part Status: Active; Q @ Freq: -; Ratings: -; Operating Temperature: -40°C ~ 105°C; Mounting Type: Surface Mount; Package / Case: 1210 (3225 Metric); Supplier Device Package: 1210; Size / Dimension: 0.126" L x 0.098" W (3.20mm x 2.50mm); Height - Seated (Max): 0.106" (2.70mm); ComponentLink1URL: https://content.kemet.com/datasheets/F3115.pdf; ComponentLink1Description: https://content.kemet.com/datasheets/F3115.pdf; Supplier Part Number 1: 399-9598-1-ND
footprint C1210_INDUCTOR
pins: 1, 2

## L7805CD2T-TR
designator U?, comment 7805
IC REG LINEAR 5V 1.5A D2PAK; Manufacturer: STMicroelectronics; Manufacturer Part Number: L7805CD2T-TR; Max Input Voltage: 35V; Min Input Voltage: 10V; Number of Outputs: 1; Dropout Voltage: 2V; Polarity: Positive; Quiescent Current: 8mA; Min Output Voltage: 4.8V; Power Supply Rejection Ratio (PSRR): 62dB; Output Type: Fixed; Supplier 1: Digi-Key; RoHS: Yes; Category: Voltage Regulators - Linear; Stock 1: 8515; Pricing 1: 1=0,94000, 10=0,83600, 25=0,79400, 100=0,65220, 250=0,60964, 500=0,53874 (USD); Mount: Surface Mount; Case/Package: TO-263; Number of Pins: 3; Weight: 7.1E-05oz; Contact Plating: Tin,Matte; Min Operating Temperature: 0°C; Max Operating Temperature: 125°C; Packaging: Tape and Reel; Output Voltage: 5V; Output Current: 1.5A; Package Quantity: 1000; Max Output Current: 1.5A; Nominal Output Voltage: 5V; Number of Regulators: 1; Series: -; Length: 10.4mm; Width: 9.35mm; Height: 4.6mm; Radiation Hardening: No; RoHS Compliant: Yes; REACH SVHC: No SVHC; Lead Free: Lead Free; ComponentLink1URL: https://datasheet.ciiva.com/26347/47-3542-26347751.pdf?src-supplier=Rapid+Electronics; ComponentLink1Description: https://datasheet.ciiva.com/26347/47-3542-26347751.pdf?src-supplier=Rapid+Electronics; ComponentLink2URL: https://datasheet.ciiva.com/36526/1991686-36526238.pdf?src-supplier=Jameco; ComponentLink2Description: https://datasheet.ciiva.com/36526/1991686-36526238.pdf?src-supplier=Jameco; ComponentLink3URL: https://datasheet.ciiva.com/2053/cd00000444-2053730.pdf?src-supplier=Digi-Key; ComponentLink3Description: https://datasheet.ciiva.com/2053/cd00000444-2053730.pdf?src-supplier=Digi-Key; ComponentLink4URL: https://datasheet.ciiva.com/2053/cd00000444-2053731.pdf?src-supplier=Digi-Key; ComponentLink4Description: https://datasheet.ciiva.com/2053/cd00000444-2053731.pdf?src-supplier=Digi-Key; ComponentLink5URL: https://datasheet.ciiva.com/2053/cd00000444-2053732.pdf?src-supplier=Digi-Key; ComponentLink5Description: https://datasheet.ciiva.com/2053/cd00000444-2053732.pdf?src-supplier=Digi-Key; ComponentLink6URL: https://datasheet.ciiva.com/7647/1805459-7647813.pdf?src-supplier=Element14; ComponentLink6Description: https://datasheet.ciiva.com/7647/1805459-7647813.pdf?src-supplier=Element14; ComponentLink7URL: https://datasheet.ciiva.com/1511/1805459-1511910.pdf?src-supplier=Element14; ComponentLink7Description: https://datasheet.ciiva.com/1511/1805459-1511910.pdf?src-supplier=Element14; ComponentLink8URL: https://datasheet.ciiva.com/46618/1805459-46618855.pdf?src-supplier=Newark; ComponentLink8Description: https://datasheet.ciiva.com/46618/1805459-46618855.pdf?src-supplier=Newark; ComponentLink9URL: https://datasheet.ciiva.com/4881/cd00000444-4881992.pdf?src-supplier=Mouser; ComponentLink9Description: https://datasheet.ciiva.com/4881/cd00000444-4881992.pdf?src-supplier=Mouser; ComponentLink10URL: https://datasheet.ciiva.com/16385/cd00000444-16385288.pdf?src-supplier=Future+Electronics; ComponentLink10Description: https://datasheet.ciiva.com/16385/cd00000444-16385288.pdf?src-supplier=Future+Electronics; ComponentLink11URL: https://datasheet.ciiva.com/22710/1805459-22710937.pdf?src-supplier=Element14; ComponentLink11Description: https://datasheet.ciiva.com/22710/1805459-22710937.pdf?src-supplier=Element14; Supplier Part Number 1: 497-1171-1-ND
footprint D2PAK
pins: 1 Vin, 2 GND, 3 Vout

## L7805CV
designator U?, comment L7805
IC REG LINEAR 5V 1.5A TO220AB; Manufacturer: STMicroelectronics; Manufacturer Part Number: L7805C-V; Dropout Voltage: 2V; Max Input Voltage: 35V; Number of Outputs: 1; Min Input Voltage: 7V; Polarity: Positive; Quiescent Current: 8mA; Tolerance: 5%; Power Supply Rejection Ratio (PSRR): 62dB; Output Type: Fixed; Supplier 1: Digi-Key; RoHS: Yes; Category: Voltage Regulators - Linear; Stock 1: 14040; Pricing 1: 1=0,67000, 10=0,57000, 25=0,53160, 100=0,42530, 250=0,39492, 500=0,33418, 1000=0,25823, 2500=0,25078 (USD); Mount: Through Hole; Case/Package: TO; Number of Pins: 3; Weight: 0.08113oz; Contact Plating: Gold; Min Operating Temperature: 0°C; Max Operating Temperature: 125°C; Package Quantity: 1000; Packaging: Rail/Tube; Output Current: 1.5A; Output Voltage: 5V; Max Output Current: 1.5A; Nominal Output Voltage: 5V; Number of Regulators: 1; Min Output Voltage: 5V; Output Configuration: Positive; Series: -; Length: 10.4mm; Width: 4.6mm; Height: 9.15mm; Radiation Hardening: No; REACH SVHC: No SVHC; Lead Free: Lead Free; RoHS Compliant: Yes; ComponentLink1URL: https://datasheet.ciiva.com/26347/47-3290e-26347739.pdf?src-supplier=Rapid+Electronics; ComponentLink1Description: https://datasheet.ciiva.com/26347/47-3290e-26347739.pdf?src-supplier=Rapid+Electronics; ComponentLink2URL: https://datasheet.ciiva.com/19480/924633-19480531.pdf?src-supplier=Jameco; ComponentLink2Description: https://datasheet.ciiva.com/19480/924633-19480531.pdf?src-supplier=Jameco; ComponentLink3URL: https://datasheet.ciiva.com/15111/getdatasheetpartid-44136-15111027.pdf?src-supplier=Verical; ComponentLink3Description: https://datasheet.ciiva.com/15111/getdatasheetpartid-44136-15111027.pdf?src-supplier=Verical; ComponentLink4URL: https://datasheet.ciiva.com/29156/156048-da-01-en-spannungsregler-l-7805-cv-to220-stm-29156924.pdf?src-supplier=Conrad; ComponentLink4Description: https://datasheet.ciiva.com/29156/156048-da-01-en-spannungsregler-l-7805-cv-to220-stm-29156924.pdf?src-supplier=Conrad; ComponentLink5URL: https://datasheet.ciiva.com/26904/l7805cv-26904430.pdf?src-supplier=IIIC; ComponentLink5Description: https://datasheet.ciiva.com/26904/l7805cv-26904430.pdf?src-supplier=IIIC; ComponentLink6URL: https://datasheet.ciiva.com/1512/1805459-1512333.pdf?src-supplier=Element14; ComponentLink6Description: https://datasheet.ciiva.com/1512/1805459-1512333.pdf?src-supplier=Element14; ComponentLink7URL: https://datasheet.ciiva.com/1511/1805459-1511914.pdf?src-supplier=Element14; ComponentLink7Description: https://datasheet.ciiva.com/1511/1805459-1511914.pdf?src-supplier=Element14; ComponentLink8URL: https://datasheet.ciiva.com/14149/tel78xx-l78xxc-e-14149770.pdf?src-supplier=Distrelec; ComponentLink8Description: https://datasheet.ciiva.com/14149/tel78xx-l78xxc-e-14149770.pdf?src-supplier=Distrelec; ComponentLink9URL: https://datasheet.ciiva.com/2043/cd00000444-2043986.pdf?src-supplier=Digi-Key; ComponentLink9Description: https://datasheet.ciiva.com/2043/cd00000444-2043986.pdf?src-supplier=Digi-Key; ComponentLink10URL: https://datasheet.ciiva.com/6884/1805459-6884463.pdf?src-supplier=Newark; ComponentLink10Description: https://datasheet.ciiva.com/6884/1805459-6884463.pdf?src-supplier=Newark; ComponentLink11URL: https://datasheet.ciiva.com/1511/1805459-1511915.pdf?src-supplier=Element14; ComponentLink11Description: https://datasheet.ciiva.com/1511/1805459-1511915.pdf?src-supplier=Element14; ComponentLink12URL: https://datasheet.ciiva.com/2073/cd00000444-2073087.pdf?src-supplier=Digi-Key; ComponentLink12Description: https://datasheet.ciiva.com/2073/cd00000444-2073087.pdf?src-supplier=Digi-Key; ComponentLink13URL: https://datasheet.ciiva.com/16458/cd00000444-16458159.pdf?src-supplier=Future+Electronics; ComponentLink13Description: https://datasheet.ciiva.com/16458/cd00000444-16458159.pdf?src-supplier=Future+Electronics; Supplier Part Number 1: 497-1443-5-ND
footprint TO-220AB
pins: 1 Vin, 2 GND, 3 Vout

## L7812CD2T-TR
designator U?
IC REG LINEAR 12V 1.5A DPAK; Manufacturer 1: STMicroelectronics; Number of Outputs: 1; Max Input Voltage: 35V; Polarity: Positive; Quiescent Current: 8mA; Output Type: Fixed; Min Input Voltage: 14V; Dropout Voltage: 2V; Power Supply Rejection Ratio (PSRR): 55dB; Supplier 1: Digi-Key; Manufacturer Part Number 1: L7812CD2T-TR; Stock 1: 29228; Pricing 1: 1=0.76, 10=0.669, 100=0.5131, 500=0.40562 (USD); Mount: Surface Mount; Case/Package: TO-263; Number of Pins: 3; Weight: 0.01lb; Contact Plating: Tin,Matte; Min Operating Temperature: 0°C; Max Operating Temperature: 125°C; Max Output Current: 1.5A; Output Voltage: 12V; Output Current: 1.5A; Packaging: Tape and Reel; Package Quantity: 1; Nominal Output Voltage: 12V; Number of Regulators: 1; Min Output Voltage: 12V; Max Output Voltage: 12V; Length: 10.4mm; Height: 4.6mm; Width: 9.35mm; Radiation Hardening: No; REACH SVHC: No SVHC; Lead Free: Lead Free; ComponentLink1URL: http://www.jameco.com/Jameco/Products/ProdDS/2027434.pdf?src-supplier=Jameco; ComponentLink1Description: http://www.jameco.com/Jameco/Products/ProdDS/2027434.pdf?src-supplier=Jameco; ComponentLink2URL: http://www.farnell.com/datasheets/1805459.pdf?src-supplier=Element14; ComponentLink2Description: http://www.farnell.com/datasheets/1805459.pdf?src-supplier=Element14; ComponentLink3URL: http://www.st.com/content/ccc/resource/technical/document/datasheet/41/4f/b3/b0/12/d4/47/88/CD00000444.pdf/files/CD00000444.pdf/jcr:content/translations/en.CD00000444.pdf?src-supplier=Digi-Key; ComponentLink3Description: http://www.st.com/content/ccc/resource/technical/document/datasheet/41/4f/b3/b0/12/d4/47/88/CD00000444.pdf/files/CD00000444.pdf/jcr:content/translations/en.CD00000444.pdf?src-supplier=Digi-Key; ComponentLink4URL: http://www.farnell.com/datasheets/1696820.pdf?src-supplier=Farnell; ComponentLink4Description: http://www.farnell.com/datasheets/1696820.pdf?src-supplier=Farnell; Supplier Part Number 1: 497-1178-6-ND
footprint DPAK
pins: 1 Vin, 2 GND, 3 Vout

## L7812CV
designator U?, comment L7812
IC REG LINEAR 12V 1.5A TO220AB; Manufacturer: STMicroelectronics; Manufacturer Part Number: L7812CV; Number of Outputs: 1; Dropout Voltage: 2V; Max Input Voltage: 35V; Min Input Voltage: 14V; Polarity: Positive; Quiescent Current: 8mA; Tolerance: 5%; Power Supply Rejection Ratio (PSRR): 55dB; Output Type: Fixed; Supplier 1: Digi-Key; RoHS: Yes; Category: Voltage Regulators - Linear; Stock 1: 14172; Pricing 1: 1=0,49000, 10=0,41700, 25=0,38960, 100=0,31160, 250=0,28936, 500=0,24486, 1000=0,18921, 2500=0,18375 (USD); Mount: Through Hole; Case/Package: TO; Number of Pins: 3; Weight: 0.08113oz; Contact Plating: Tin; Min Operating Temperature: 0°C; Max Operating Temperature: 125°C; Max Output Current: 1.5A; Output Voltage: 12V; Packaging: Rail/Tube; Output Current: 1.5A; Package Quantity: 50; Nominal Output Voltage: 12V; Number of Regulators: 1; Min Output Voltage: 12V; Length: 10.4mm; Width: 4.6mm; Height: 9.15mm; Radiation Hardening: No; REACH SVHC: No SVHC; Lead Free: Lead Free; RoHS Compliant: Yes; ComponentLink1URL: https://datasheet.ciiva.com/19456/889305-19456372.pdf?src-supplier=Jameco; ComponentLink1Description: https://datasheet.ciiva.com/19456/889305-19456372.pdf?src-supplier=Jameco; ComponentLink2URL: https://datasheet.ciiva.com/26904/l7812cv-26904443.pdf?src-supplier=IIIC; ComponentLink2Description: https://datasheet.ciiva.com/26904/l7812cv-26904443.pdf?src-supplier=IIIC; ComponentLink3URL: https://datasheet.ciiva.com/14111/tel78xx-l78xxc-e-14111397.pdf?src-supplier=Distrelec; ComponentLink3Description: https://datasheet.ciiva.com/14111/tel78xx-l78xxc-e-14111397.pdf?src-supplier=Distrelec; ComponentLink4URL: https://datasheet.ciiva.com/1511/1805459-1511927.pdf?src-supplier=Element14; ComponentLink4Description: https://datasheet.ciiva.com/1511/1805459-1511927.pdf?src-supplier=Element14; ComponentLink5URL: https://datasheet.ciiva.com/16508/cd00000444-16508249.pdf?src-supplier=Future+Electronics; ComponentLink5Description: https://datasheet.ciiva.com/16508/cd00000444-16508249.pdf?src-supplier=Future+Electronics; ComponentLink6URL: https://datasheet.ciiva.com/6884/1805459-6884955.pdf?src-supplier=Newark; ComponentLink6Description: https://datasheet.ciiva.com/6884/1805459-6884955.pdf?src-supplier=Newark; Supplier Part Number 1: 497-1452-5-ND
footprint TO-220AB
pins: 1 Vin, 2 GND, 3 Vout

## L-14C36NKV4T
designator L?, comment 36nH
FIXED IND nH 36 300MA 0603 SMD; Manufacturer: Johanson; Manufacturer Part Number: L-14C36NKV4T; Core Material: Ceramic; Tolerance: 10%; Shielding: Unshielded; Test Frequency: 100MHz; Supplier 1: Digi-Key; Stock 1: 0; RoHS: Yes; Mount: Surface Mount; Case/Package: 0603; Min Operating Temperature: -40°C; Max Operating Temperature: 100°C; Package Quantity: 4000; Current Rating: 300mA; Packaging: Tape and Reel; Inductance: 36nH; Length: 0.063inch; Width: 0.031inch; Height - Seated (Max): 0.037inch; ComponentLink1URL: https://www.johansontechnology.com/downloads/jti-cat-rf-ind.pdf?src-supplier=Digi-Key; ComponentLink1Description: https://www.johansontechnology.com/downloads/jti-cat-rf-ind.pdf?src-supplier=Digi-Key; Supplier Part Number 1: L-14C36NKV4T-ND
footprint FERRITEBEAD_0603
pins: 1, 2